# Altium integrated library M24C.IntLib: 1 symbol
Pins are listed as number, name and electrical type; pins without a type are passive.

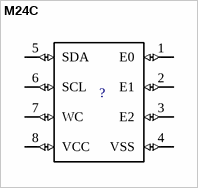
[diagram p0: symbol M24C]

## M24C
designator ?  (value not drawn)
Value: *
footprint SO8
pins: 1 E0 (io), 2 E1 (io), 3 E2 (io), 4 VSS (io), 5 SDA (io), 6 SCL (io), 7 WC (io), 8 VCC (io)